# EAGLE library part IXDN602PI (library ir)
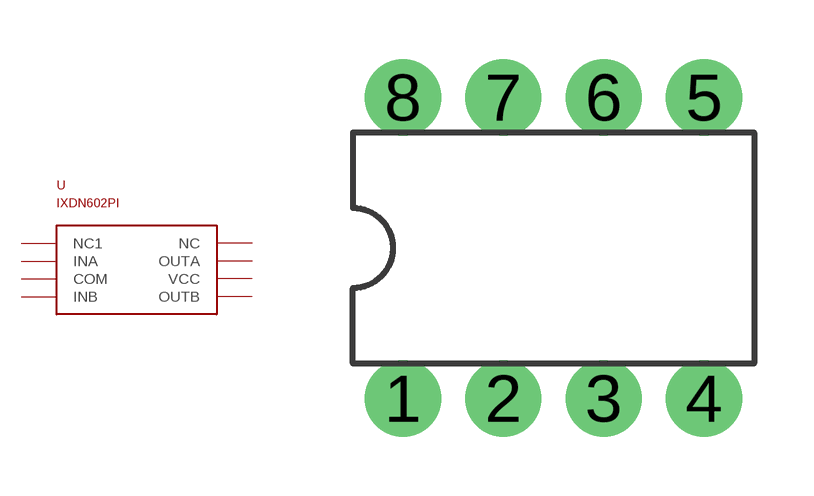
[diagram p7: symbol with the pads of IDXN602PI; footprint IDXN602PI]

Designator prefix U

## IXDN602PI  [IDXN602PI]
1  NC1
2  INA
3  COM
4  INB
5  OUTB
6  VCC
7  OUTA
8  NC

## Footprint IDXN602PI (pad centres in mm)
drill 1.067 pad 1.93: 1 -3.81,-3.81; 2 -1.27,-3.81; 3 1.27,-3.81; 4 3.81,-3.81; 5 3.81,3.81; 6 1.27,3.81; 7 -1.27,3.81; 8 -3.81,3.81